# Altium footprint library 44268 Myrra Transformer.PcbLib: 1 footprints
Each footprint in its own frame and in the unit in brackets; x right, y up, seen from the top. Pads: shape width x height; smd on the part's side, far side on the other; paste and mask are expansions set on the pad; w line width, h text height; cw(c..) or ccw(c..) is an arc to the next point about the centre after c.
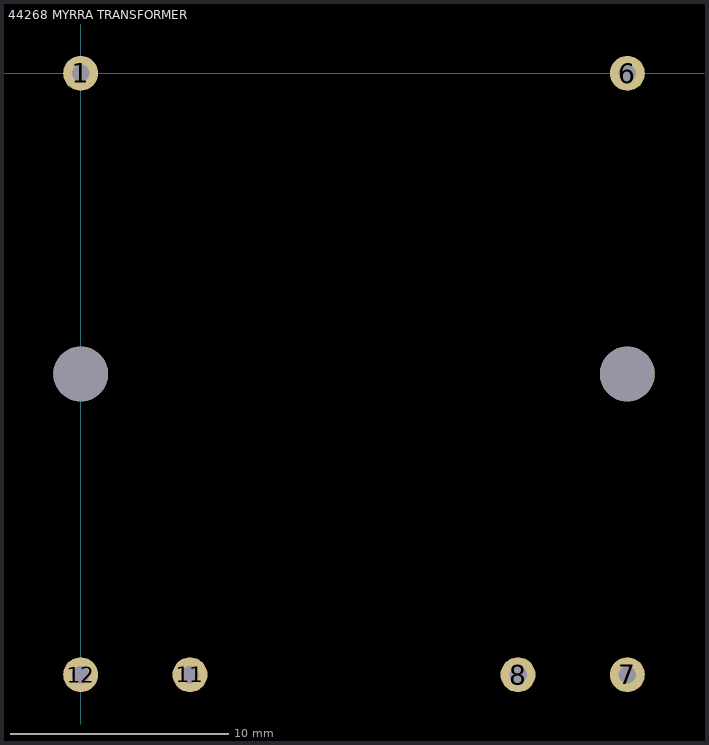
[diagram p0: the footprint, top view; thin cyan lines are the x and y axes]

## 44268 MYRRA TRANSFORMER [mm]
pads (8):
  round 1.6 hole 0.8: 1(0,0) 6(25,0) 7(25,-27.5) 8(20,-27.5) 11(5,-27.5) 12(0,-27.5)
  round 2.5 hole 2.5 unplated: ""(0,-13.75) ""(25,-13.75)